# EAGLE library part I__4502 (library ..SMD)
Stored hex INVERTER/BUFFER
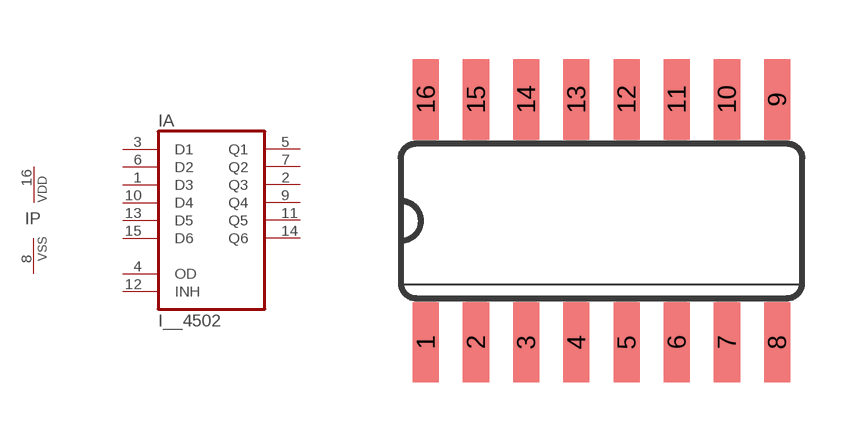
[diagram p93: symbol with the pads of SO16; footprint SO16]

Designator prefix I; gates A=4502 P=PWRN

## I__4502D  [SO16]
1  A:D3  in
2  A:Q3  out
3  A:D1  in
4  A:OD  in
5  A:Q1  out
6  A:D2  in
7  A:Q2  out
8  P:VSS  pwr
9  A:Q4  out
10  A:D4  in
11  A:Q5  out
12  A:INH  in
13  A:D5  in
14  A:Q6  out
15  A:D6  in
16  P:VDD  pwr

## Footprint SO16 (pad centres in mm)
Small Outline Package 16
smd 0.66 x 2.032: 1 -4.445,-3.073; 2 -3.175,-3.073; 3 -1.905,-3.073; 4 -0.635,-3.073; 5 0.635,-3.073; 6 1.905,-3.073; 7 3.175,-3.073; 8 4.445,-3.073; 9 4.445,3.073; 10 3.175,3.073; 11 1.905,3.073; 12 0.635,3.073; 13 -0.635,3.073; 14 -1.905,3.073; 15 -3.175,3.073; 16 -4.445,3.073